# Altium footprint library PCB - POWER - WE-OLEFD_EFD20_SMT.PCBLIB: 1 footprints
Each footprint in its own frame and in the unit in brackets; x right, y up, seen from the top. Pads: shape width x height; smd on the part's side, far side on the other; paste and mask are expansions set on the pad; w line width, h text height; cw(c..) or ccw(c..) is an arc to the next point about the centre after c.
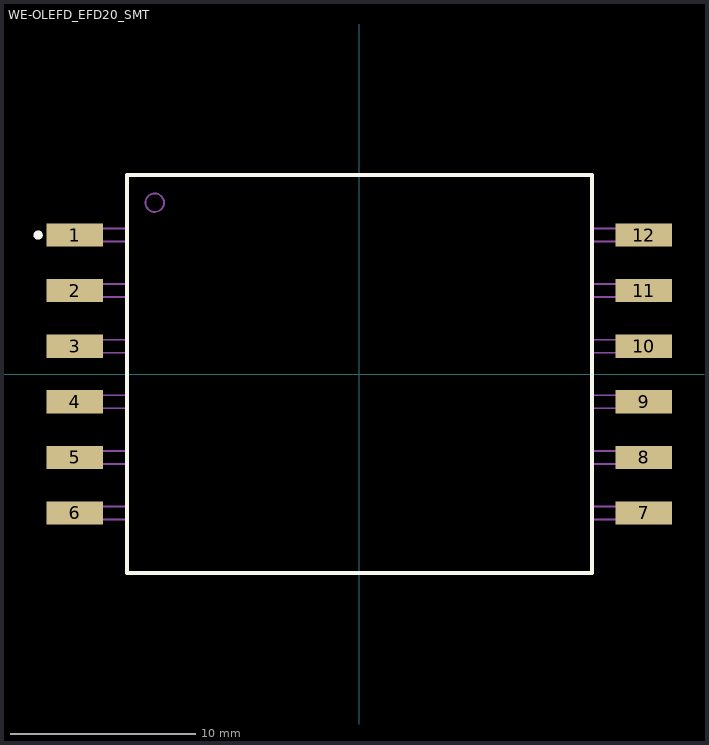
[diagram p0: the footprint, top view; thin cyan lines are the x and y axes]

## WE-OLEFD_EFD20_SMT [mm] "Offline Flyback Transformer, SMT, body 33.80 x 21.50 mm"
height 12
pads (12):
  rect 3.05x1.25 smd: 1(-15.36,7.5) 2(-15.36,4.5) 3(-15.36,1.5) 4(-15.36,-1.5) 5(-15.36,-4.5) 6(-15.36,-7.5) 7(15.36,-7.5) 8(15.36,-4.5) 9(15.36,-1.5) 10(15.36,1.5) 11(15.36,4.5) 12(15.36,7.5)
Top Overlay:
  circle w0.25: c-17.35,7.5 r0.125
  lines w0.2: -12.555,-10.75 -12.555,10.75 12.555,10.75 12.555,-10.75 -12.555,-10.75
Top 3D Body:
  text ".Designator" at -7.498,-0.5 h1.5
Top Component Center:
  circle w0.1: c-11.055,9.25 r0.5
  lines w0.1: -12.555,-7.85 -16.365,-7.85 -16.365,-7.15 -12.555,-7.15 ; -12.555,-4.85 -16.365,-4.85 -16.365,-4.15 -12.555,-4.15 ; -12.555,-1.85 -16.365,-1.85 -16.365,-1.15 -12.555,-1.15 ; -12.555,1.15 -16.365,1.15 -16.365,1.85 -12.555,1.85 ; -12.555,4.15 -16.365,4.15 -16.365,4.85 -12.555,4.85 ; -12.555,7.15 -16.365,7.15 -16.365,7.85 -12.555,7.85 ; 12.555,-7.85 16.365,-7.85 16.365,-7.15 12.555,-7.15 ; 12.555,-4.85 16.365,-4.85 16.365,-4.15 12.555,-4.15 ; 12.555,-1.85 16.365,-1.85 16.365,-1.15 12.555,-1.15 ; 12.555,1.15 16.365,1.15 16.365,1.85 12.555,1.85 ; 12.555,4.15 16.365,4.15 16.365,4.85 12.555,4.85 ; 12.555,7.15 16.365,7.15 16.365,7.85 12.555,7.85 ; -12.555,-10.75 12.555,-10.75 12.555,10.75 -12.555,10.75 -12.555,-10.75
3D body "070-5900 (rev1).STEP": height 11.9, standoff 0, extent -16.365,-10.1 16.365,10.1